# EAGLE library part V3S (library marius)
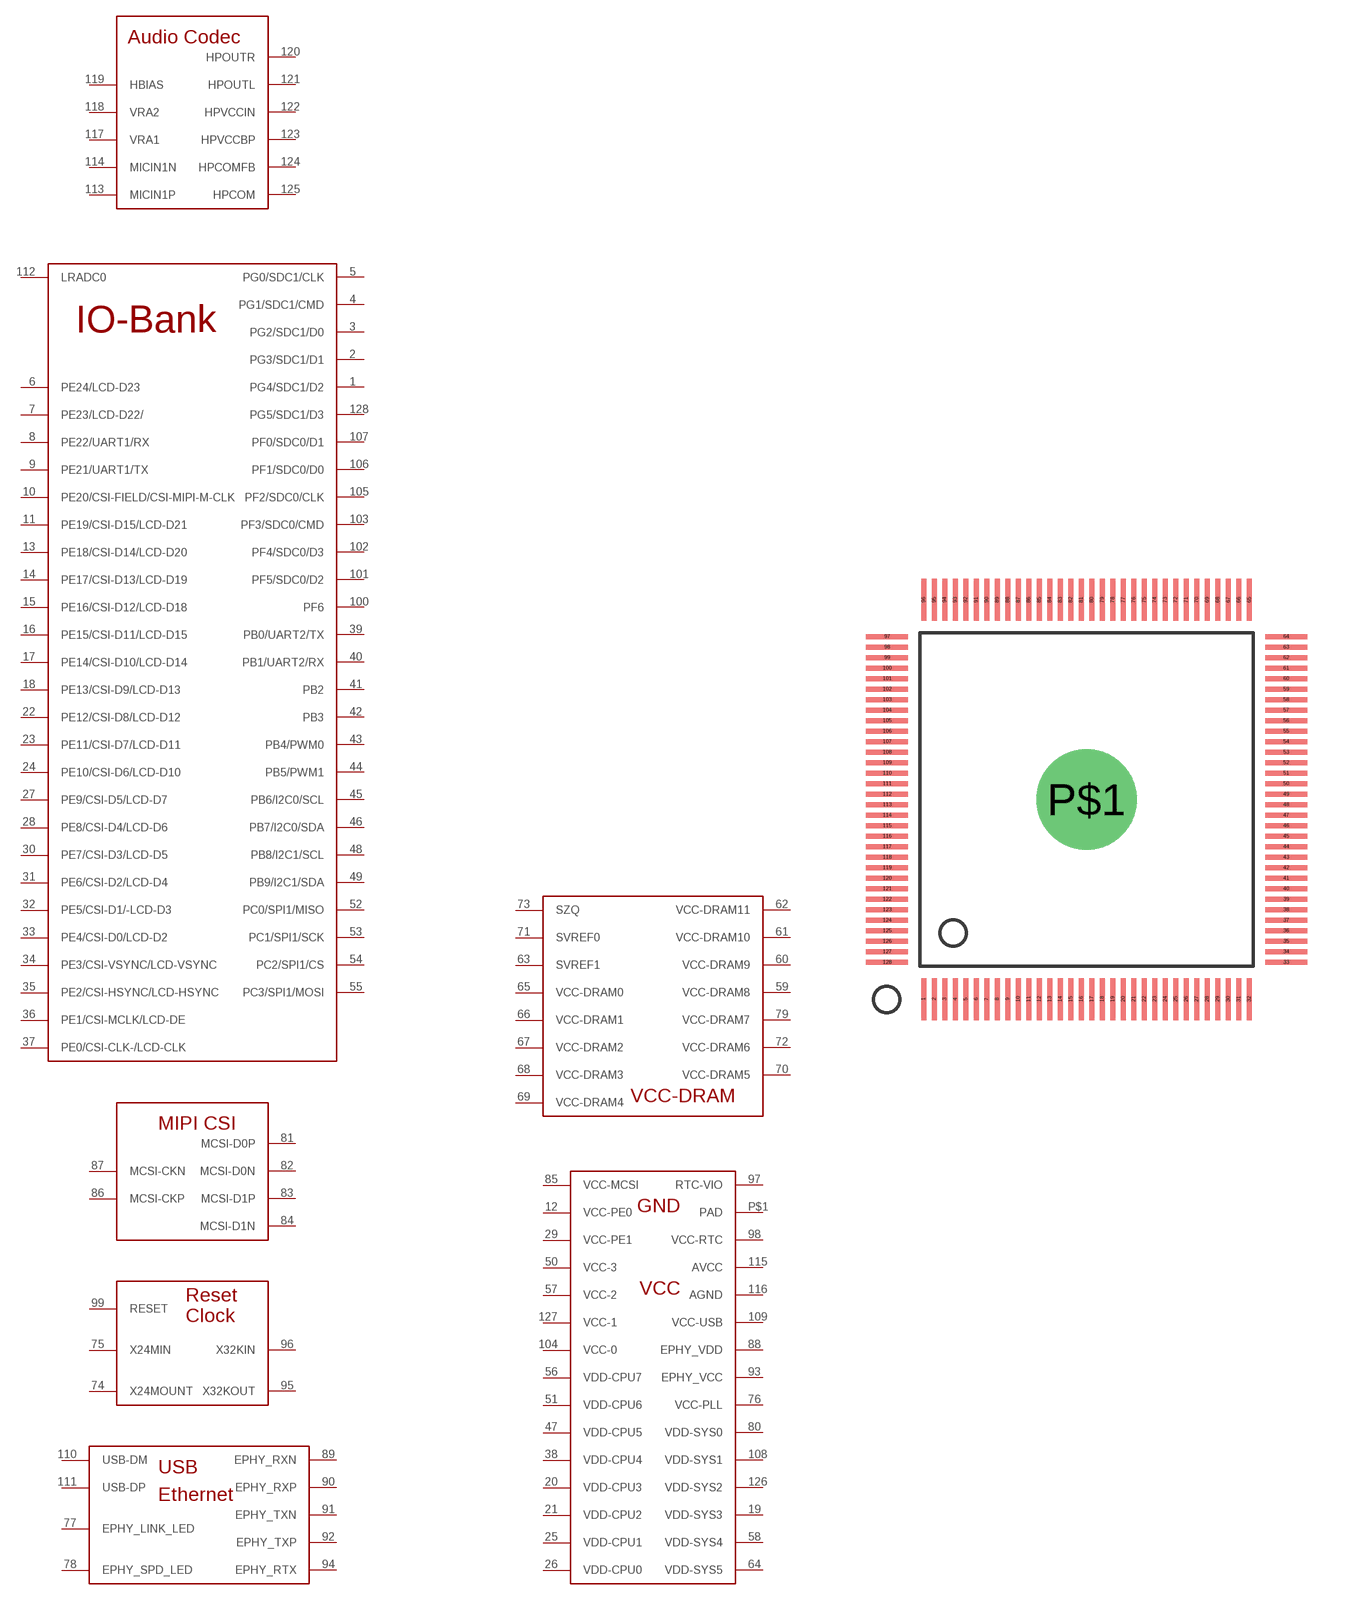
[diagram p7: symbol with the pads of QFP-128; footprint QFP-128]

Designator prefix U; gates G$1=AUDIO G$2=IO-BANK G$3=MIPI-CSI G$4=RESET&CLOCK G$5=USB&ETHERNET G$6=VCC G$7=VCC-DRAM

## V3S (MPN: V3s)  [QFP-128]
1  G$2:PG4/SDC1/D2
2  G$2:PG3/SDC1/D1
3  G$2:PG2/SDC1/D0
4  G$2:PG1/SDC1/CMD
5  G$2:PG0/SDC1/CLK
6  G$2:PE24/LCD-D23
7  G$2:PE23/LCD-D22/
8  G$2:PE22/UART1/RX
9  G$2:PE21/UART1/TX
10  G$2:PE20/CSI-FIELD/CSI-MIPI-M-CLK
11  G$2:PE19/CSI-D15/LCD-D21
12  G$6:VCC-PE0
13  G$2:PE18/CSI-D14/LCD-D20
14  G$2:PE17/CSI-D13/LCD-D19
15  G$2:PE16/CSI-D12/LCD-D18
16  G$2:PE15/CSI-D11/LCD-D15
17  G$2:PE14/CSI-D10/LCD-D14
18  G$2:PE13/CSI-D9/LCD-D13
19  G$6:VDD-SYS3
20  G$6:VDD-CPU3
21  G$6:VDD-CPU2
22  G$2:PE12/CSI-D8/LCD-D12
23  G$2:PE11/CSI-D7/LCD-D11
24  G$2:PE10/CSI-D6/LCD-D10
25  G$6:VDD-CPU1
26  G$6:VDD-CPU0
27  G$2:PE9/CSI-D5/LCD-D7
28  G$2:PE8/CSI-D4/LCD-D6
29  G$6:VCC-PE1
30  G$2:PE7/CSI-D3/LCD-D5
31  G$2:PE6/CSI-D2/LCD-D4
32  G$2:PE5/CSI-D1/-LCD-D3
33  G$2:PE4/CSI-D0/LCD-D2
34  G$2:PE3/CSI-VSYNC/LCD-VSYNC
35  G$2:PE2/CSI-HSYNC/LCD-HSYNC
36  G$2:PE1/CSI-MCLK/LCD-DE
37  G$2:PE0/CSI-CLK-/LCD-CLK
38  G$6:VDD-CPU4
39  G$2:PB0/UART2/TX
40  G$2:PB1/UART2/RX
41  G$2:PB2
42  G$2:PB3
43  G$2:PB4/PWM0
44  G$2:PB5/PWM1
45  G$2:PB6/I2C0/SCL
46  G$2:PB7/I2C0/SDA
47  G$6:VDD-CPU5
48  G$2:PB8/I2C1/SCL
49  G$2:PB9/I2C1/SDA
50  G$6:VCC-3
51  G$6:VDD-CPU6
52  G$2:PC0/SPI1/MISO
53  G$2:PC1/SPI1/SCK
54  G$2:PC2/SPI1/CS
55  G$2:PC3/SPI1/MOSI
56  G$6:VDD-CPU7
57  G$6:VCC-2
58  G$6:VDD-SYS4
59  G$7:VCC-DRAM8
60  G$7:VCC-DRAM9
61  G$7:VCC-DRAM10
62  G$7:VCC-DRAM11
63  G$7:SVREF1
64  G$6:VDD-SYS5
65  G$7:VCC-DRAM0
66  G$7:VCC-DRAM1
67  G$7:VCC-DRAM2
68  G$7:VCC-DRAM3
69  G$7:VCC-DRAM4
70  G$7:VCC-DRAM5
71  G$7:SVREF0
72  G$7:VCC-DRAM6
73  G$7:SZQ
74  G$4:X24MOUNT
75  G$4:X24MIN
76  G$6:VCC-PLL
77  G$5:EPHY_LINK_LED
78  G$5:EPHY_SPD_LED
79  G$7:VCC-DRAM7
80  G$6:VDD-SYS0
81  G$3:MCSI-D0P
82  G$3:MCSI-D0N
83  G$3:MCSI-D1P
84  G$3:MCSI-D1N
85  G$6:VCC-MCSI
86  G$3:MCSI-CKP
87  G$3:MCSI-CKN
88  G$6:EPHY_VDD
89  G$5:EPHY_RXN
90  G$5:EPHY_RXP
91  G$5:EPHY_TXN
92  G$5:EPHY_TXP
93  G$6:EPHY_VCC
94  G$5:EPHY_RTX
95  G$4:X32KOUT
96  G$4:X32KIN
97  G$6:RTC-VIO
98  G$6:VCC-RTC
99  G$4:RESET
100  G$2:PF6
101  G$2:PF5/SDC0/D2
102  G$2:PF4/SDC0/D3
103  G$2:PF3/SDC0/CMD
104  G$6:VCC-0
105  G$2:PF2/SDC0/CLK
106  G$2:PF1/SDC0/D0
107  G$2:PF0/SDC0/D1
108  G$6:VDD-SYS1
109  G$6:VCC-USB
110  G$5:USB-DM
111  G$5:USB-DP
112  G$2:LRADC0
113  G$1:MICIN1P
114  G$1:MICIN1N
115  G$6:AVCC
116  G$6:AGND
117  G$1:VRA1
118  G$1:VRA2
119  G$1:HBIAS
120  G$1:HPOUTR
121  G$1:HPOUTL
122  G$1:HPVCCIN
123  G$1:HPVCCBP
124  G$1:HPCOMFB
125  G$1:HPCOM
126  G$6:VDD-SYS2
127  G$6:VCC-1
128  G$2:PG5/SDC1/D3
P$1  G$6:PAD

## Footprint QFP-128 (pad centres in mm)
smd 0.2 x 1.6: 1 -6.2,-7.6; 2 -5.8,-7.6; 3 -5.4,-7.6; 4 -5,-7.6; 5 -4.6,-7.6; 6 -4.2,-7.6; 7 -3.8,-7.6; 8 -3.4,-7.6; 9 -3,-7.6; 10 -2.6,-7.6; 11 -2.2,-7.6; 12 -1.8,-7.6; 13 -1.4,-7.6; 14 -1,-7.6; 15 -0.6,-7.6; 16 -0.2,-7.6; 17 0.2,-7.6; 18 0.6,-7.6; 19 1,-7.6; 20 1.4,-7.6; 21 1.8,-7.6; 22 2.2,-7.6; 23 2.6,-7.6; 24 3,-7.6; 25 3.4,-7.6; 26 3.8,-7.6; 27 4.2,-7.6; 28 4.6,-7.6; 29 5,-7.6; 30 5.4,-7.6; 31 5.8,-7.6; 32 6.2,-7.6; 65 6.2,7.6; 66 5.8,7.6; 67 5.4,7.6; 68 5,7.6; 69 4.6,7.6; 70 4.2,7.6; 71 3.8,7.6; 72 3.4,7.6; 73 3,7.6; 74 2.6,7.6; 75 2.2,7.6; 76 1.8,7.6; 77 1.4,7.6; 78 1,7.6; 79 0.6,7.6; 80 0.2,7.6; 81 -0.2,7.6; 82 -0.6,7.6; 83 -1,7.6; 84 -1.4,7.6; 85 -1.8,7.6; 86 -2.2,7.6; 87 -2.6,7.6; 88 -3,7.6; 89 -3.4,7.6; 90 -3.8,7.6; 91 -4.2,7.6; 92 -4.6,7.6; 93 -5,7.6; 94 -5.4,7.6; 95 -5.8,7.6; 96 -6.2,7.6
smd 1.6 x 0.2: 33 7.6,-6.2; 34 7.6,-5.8; 35 7.6,-5.4; 36 7.6,-5; 37 7.6,-4.6; 38 7.6,-4.2; 39 7.6,-3.8; 40 7.6,-3.4; 41 7.6,-3; 42 7.6,-2.6; 43 7.6,-2.2; 44 7.6,-1.8; 45 7.6,-1.4; 46 7.6,-1; 47 7.6,-0.6; 48 7.6,-0.2; 49 7.6,0.2; 50 7.6,0.6; 51 7.6,1; 52 7.6,1.4; 53 7.6,1.8; 54 7.6,2.2; 55 7.6,2.6; 56 7.6,3; 57 7.6,3.4; 58 7.6,3.8; 59 7.6,4.2; 60 7.6,4.6; 61 7.6,5; 62 7.6,5.4; 63 7.6,5.8; 64 7.6,6.2; 97 -7.6,6.2; 98 -7.6,5.8; 99 -7.6,5.4; 100 -7.6,5; 101 -7.6,4.6; 102 -7.6,4.2; 103 -7.6,3.8; 104 -7.6,3.4; 105 -7.6,3; 106 -7.6,2.6; 107 -7.6,2.2; 108 -7.6,1.8; 109 -7.6,1.4; 110 -7.6,1; 111 -7.6,0.6; 112 -7.6,0.2; 113 -7.6,-0.2; 114 -7.6,-0.6; 115 -7.6,-1; 116 -7.6,-1.4; 117 -7.6,-1.8; 118 -7.6,-2.2; 119 -7.6,-2.6; 120 -7.6,-3; 121 -7.6,-3.4; 122 -7.6,-3.8; 123 -7.6,-4.2; 124 -7.6,-4.6; 125 -7.6,-5; 126 -7.6,-5.4; 127 -7.6,-5.8; 128 -7.6,-6.2
drill 2.8: P$1 0,0